# Altium schematic symbol library Schlib1.SchLib: 43 symbols (part 2 of 2)
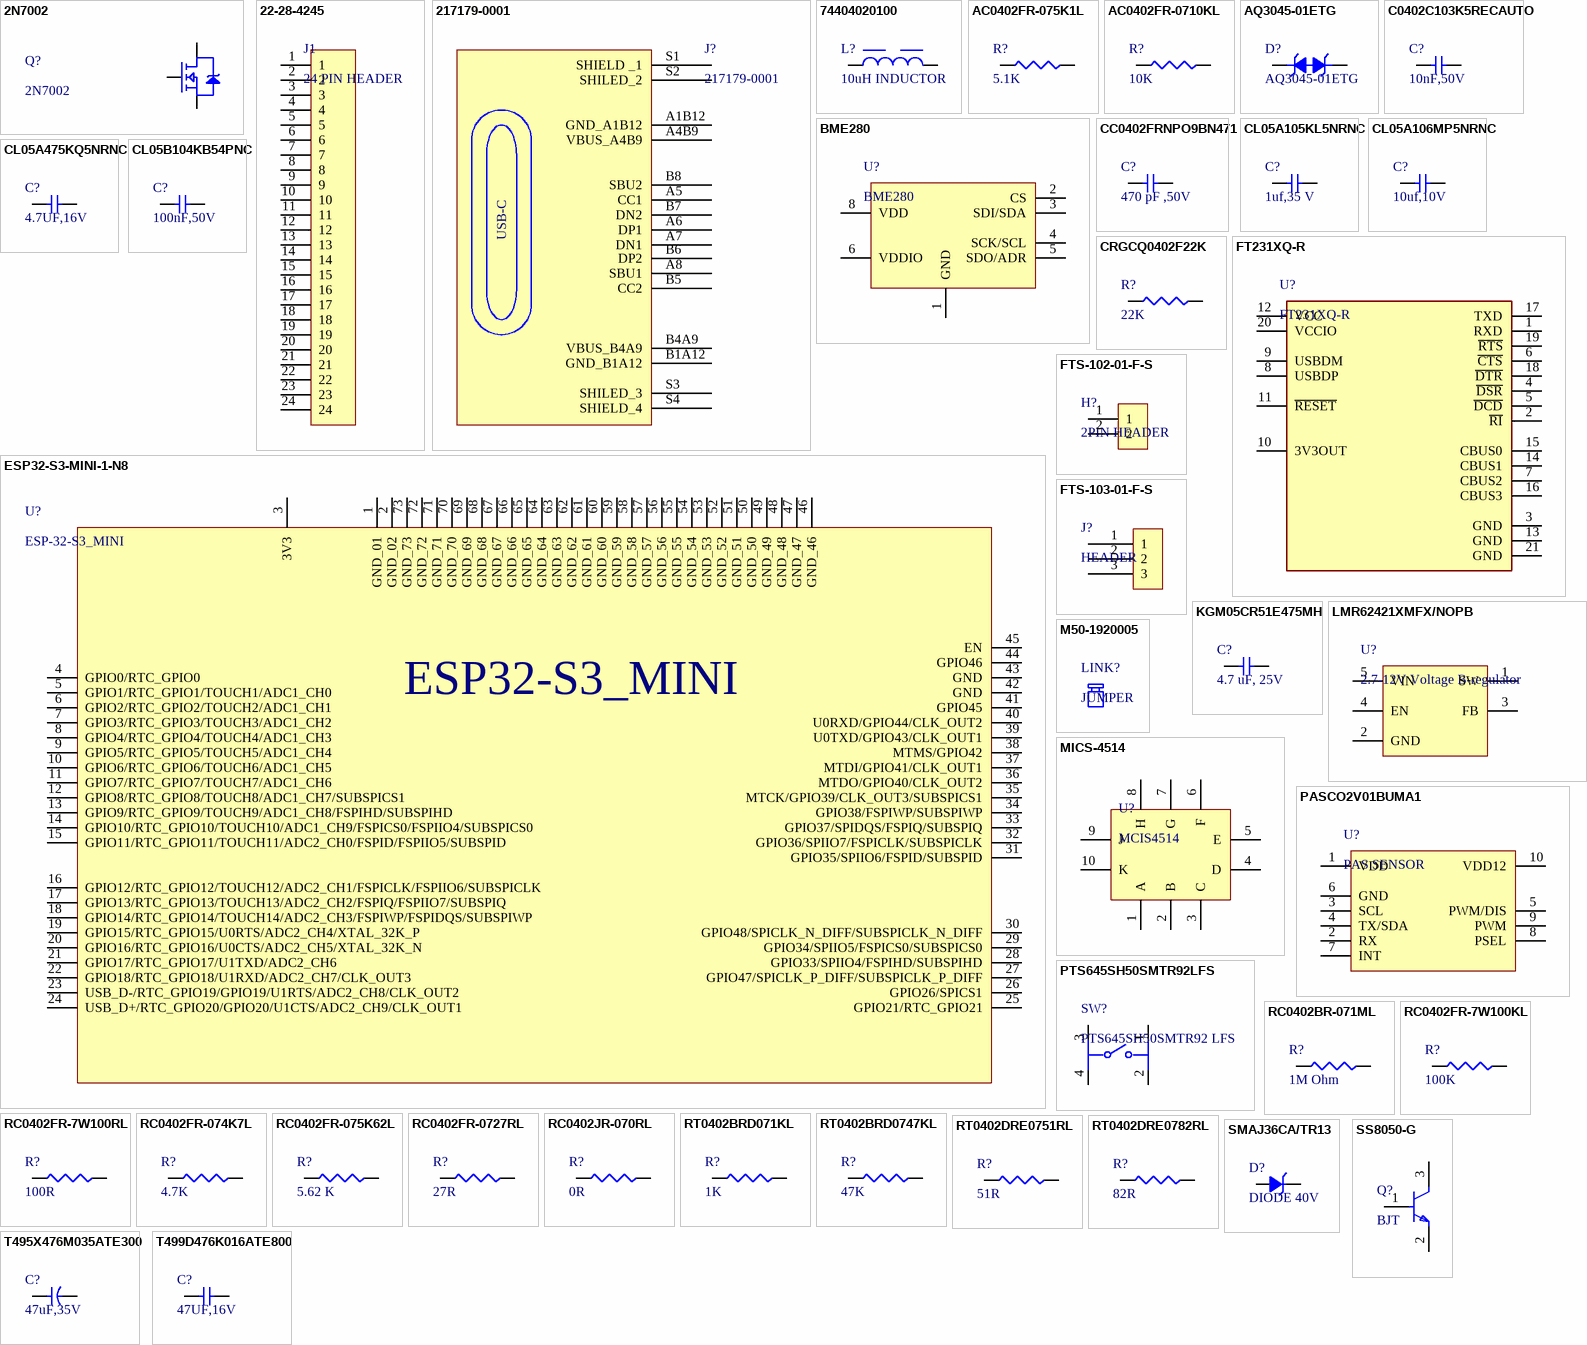
[diagram p2: symbols 2N7002 to T499D476K016ATE800]

## RT0402BRD071KL
designator R?, comment 1K
RES SMD 1K OHM 0.1% 1/16W 0402; Manufacturer: Yageo; Manufacturer Part Number: RT0402BRD071KL; Value: 1kR; Power Rating: 62.5mW; Voltage Rating: 50V; Max Power Dissipation: 63mW; Temperature Coefficient: 25ppm/°C; Supplier: Future Electronics; Supplier Part Number: 4395265; RoHS: Yes; Category: Chip SMD Resistors; Stock: 90000; Pricing: 10000=0.0199, 20000=0.0196, 30000=0.0194, 40000=0.0193, 50000=0.0189 (USD); Case/Package: 0402; Case Code (Imperial): 0402; Case Code (Metric): 1005; Weight: 2.3E-05oz; Min Operating Temperature: -55°C; Max Operating Temperature: 155°C; Packaging: Tape and Reel; Tolerance: 0.1%; Package Quantity: 10000; Number of Terminations: 2; Termination: SMD/SMT; Voltage Rating (DC): 50V; Features: Moisture Resistant; Series: RT; Length: 0.039inch; Width: 0.5mm; Height: 0.014inch; Lead Free: Lead Free; RoHS Compliant: Yes; ComponentLink1URL: https://datasheet.ciiva.com/46635/pyu-rt-1-to-0-05-rohs-l-5-46635179.pdf?src-supplier=Digikey; ComponentLink1Description: https://datasheet.ciiva.com/46635/pyu-rt-1-to-0-05-rohs-l-5-46635179.pdf?src-supplier=Digikey; ComponentLink2URL: https://datasheet.ciiva.com/2582/pyu-rt-1-to-0-05-rohs-l-4-2582219.pdf?src-supplier=Digikey; ComponentLink2Description: https://datasheet.ciiva.com/2582/pyu-rt-1-to-0-05-rohs-l-4-2582219.pdf?src-supplier=Digikey; ComponentLink3URL: https://datasheet.ciiva.com/12837/pyu-rt-1-to-0-05-rohs-l-4-12837237.pdf?src-supplier=Mouser; ComponentLink3Description: https://datasheet.ciiva.com/12837/pyu-rt-1-to-0-05-rohs-l-4-12837237.pdf?src-supplier=Mouser; LCSC PART Number: C852624
footprint RESC1005X37N
pins: 1, 2

## RT0402BRD0747KL
designator R?, comment 47K
RES SMD 47K OHM 0.1% 1/16W 0402; Manufacturer: Yageo; Manufacturer Part Number: RT0402BRD0747KL; Value: 47kR; Power Rating: 62.5mW; Voltage Rating: 50V; Temperature Coefficient: 25ppm/°C; Max Power Dissipation: 63mW; Supplier: Future Electronics; Supplier Part Number: 4102491; RoHS: Yes; Category: Chip SMD Resistors; Stock: 10000; Pricing: 10000=0.0197, 20000=0.0194, 30000=0.0192, 40000=0.0191, 50000=0.0187 (USD); Case/Package: 0402; Case Code (Imperial): 0402; Case Code (Metric): 1005; Weight: 2.3E-05oz; Contact Plating: Tin,Lead; Min Operating Temperature: -55°C; Max Operating Temperature: 155°C; Tolerance: 0.1%; Packaging: Tape and Reel; Termination: SMD/SMT; Number of Terminations: 2; Voltage Rating (DC): 50V; Features: Moisture Resistant; Series: RT; Length: 0.039inch; Width: 0.5mm; Height: 0.014inch; Lead Free: Lead Free; RoHS Compliant: Yes; ComponentLink1URL: https://datasheet.ciiva.com/12798/pyu-rt-1-to-0-05-rohs-l-4-12798280.pdf?src-supplier=Mouser; ComponentLink1Description: https://datasheet.ciiva.com/12798/pyu-rt-1-to-0-05-rohs-l-4-12798280.pdf?src-supplier=Mouser; LCSC PART Number: C728561
footprint RESC1005X37N
pins: 1, 2

## RT0402DRE0751RL
designator R?, comment 51R
RES SMD 51 OHM 0.5% 1/16W 0402; Manufacturer: Yageo; Manufacturer Part Number: RT0402DRE0751RL; Max Power Dissipation: 63mW; Temperature Coefficient: 50ppm/°C; Voltage Rating (DC): 50V; Supplier: Digikey; Supplier Part Number: 311-51UCT-ND; RoHS: Yes; Category: Chip SMD Resistors; Stock: 1712; Pricing: 1=0.1, 10=0.051, 50=0.0494, 100=0.0479, 500=0.03672, 1000=0.03264 (USD); Case/Package: 0402; Case Code (Metric): 1005; Case Code (Imperial): 0402; Min Operating Temperature: -55°C; Max Operating Temperature: 155°C; Value: 51R; Tolerance: 0.5%; Packaging: Cut Tape; Number of Terminations: 2; Series: RT; Lead Free: Lead Free; RoHS Compliant: Yes; ComponentLink1URL: https://www.yageo.com/upload/media/product/productsearch/datasheet/rchip/PYu-RT_1-to-0.01_RoHS_L_11.pdf?src-supplier=Digikey; ComponentLink1Description: https://www.yageo.com/upload/media/product/productsearch/datasheet/rchip/PYu-RT_1-to-0.01_RoHS_L_11.pdf?src-supplier=Digikey; ComponentLink2URL: http://www.yageo.com/documents/recent/PYu-RT_1-to-0.01_RoHS_L_9.pdf?src-supplier=Digikey; ComponentLink2Description: http://www.yageo.com/documents/recent/PYu-RT_1-to-0.01_RoHS_L_9.pdf?src-supplier=Digikey; ComponentLink3URL: https://datasheet.octopart.com/RT0402DRE0751RL-Yageo-datasheet-169971040.pdf?src-supplier=Future+Electronics; ComponentLink3Description: https://datasheet.octopart.com/RT0402DRE0751RL-Yageo-datasheet-169971040.pdf?src-supplier=Future+Electronics; LCSC PART Number: C853981
footprint RESC1005X37N
pins: 1, 2

## RT0402DRE0782RL
designator R?, comment 82R
RES SMD 82 OHM 0.5% 1/16W 0402; Manufacturer: Yageo; Manufacturer Part Number: RT0402DRE0782RL; Max Power Dissipation: 63mW; Temperature Coefficient: 50ppm/°C; Voltage Rating (DC): 50V; Supplier: Digikey; Supplier Part Number: 311-82UTR-ND; RoHS: Yes; Category: Chip SMD Resistors; Pricing: 10000=0.0203 (USD); Case/Package: 0402; Case Code (Metric): 1005; Case Code (Imperial): 0402; Min Operating Temperature: -55°C; Max Operating Temperature: 155°C; Package Quantity: 1; Value: 82R; Tolerance: 0.5%; Packaging: Cut Tape; Number of Terminations: 2; Features: Moisture Resistant; Series: RT; Length: 0.039inch; Width: 0.02inch; Height: 0.014inch; Lead Free: Lead Free; RoHS Compliant: Yes; ComponentLink1URL: https://www.yageo.com/upload/media/product/productsearch/datasheet/rchip/PYu-RT_1-to-0.01_RoHS_L_12.pdf?src-supplier=Digikey; ComponentLink1Description: https://www.yageo.com/upload/media/product/productsearch/datasheet/rchip/PYu-RT_1-to-0.01_RoHS_L_12.pdf?src-supplier=Digikey; ComponentLink2URL: http://www.yageo.com/documents/recent/PYu-RT_1-to-0.01_RoHS_L_8.pdf?src-supplier=Digikey; ComponentLink2Description: http://www.yageo.com/documents/recent/PYu-RT_1-to-0.01_RoHS_L_8.pdf?src-supplier=Digikey; LCSC PART Number: C854049
footprint RESC1005X37N
pins: 1, 2

## SMAJ36CA/TR13
designator D?, comment DIODE 40V
TVS DIODE 36VWM 58.1VC DO214AC; Manufacturer: Yageo; Manufacturer Part Number: SMAJ36CA/TR13; Supplier: Digikey; Supplier Part Number: 13-SMAJ36CA/TR13CT-ND; RoHS: Yes; Stock: 6450; Pricing: 1=0.24, 10=0.153, 100=0.069, 500=0.0655, 1000=0.062 (USD); RoHS Compliant: Yes; LCSC PART Number: C87270
pins: 1, 2

## SS8050-G
designator Q?, comment BJT
TRANS NPN 25V 1.5A SOT-23-3; Manufacturer: Comchip; Manufacturer Part Number: SS8050-G; Max Power Dissipation: 300mW; Transition Frequency: 100MHz; Collector-emitter Voltage-Max: 400mV; Collector Base Voltage (VCBO): 40V; Collector Emitter Saturation Voltage: 500mV; Emitter Base Voltage (VEBO): 5V; hFE Min: 200; Number of Elements: 1; Supplier: Digikey; Supplier Part Number: 641-1790-1-ND; RoHS: Yes; Category: Transistors; Stock: 149582; Pricing: 1=0.24, 10=0.148, 100=0.0921, 500=0.06754, 1000=0.05958, 3000=0.04941, 6000=0.04428, 9000=0.04166, 15000=0.03872, 21000=0.03697, 30000=0.03527, 75000=0.03155, 150000=0.02924, 300000=0.0275 (USD); Mounting Technology: Surface Mount; Case/Package: TO-236-3; Max Operating Temperature: 150°C; Packaging: Cut Tape; Max Collector Current: 1.5A; Collector Emitter Breakdown Voltage: 25V; Max Breakdown Voltage: 25V; Series: -; Power Dissipation: 300mW; Height: 1.15mm; RoHS Compliant: Yes; ComponentLink1URL: http://www.comchiptech.com/admin/files/product/SS8050-G RevA181526.pdf?src-supplier=Digikey; ComponentLink1Description: http://www.comchiptech.com/admin/files/product/SS8050-G RevA181526.pdf?src-supplier=Digikey; LCSC PART Number: C164886
footprint FP-SS8050-G-IPC_B
pins: 1 B, 2 E, 3 C

## T495X476M035ATE300
designator C?, comment 47uF,35V
CAP TANT 47UF 20% 35V 2917; Manufacturer: KEMET; Manufacturer Part Number: T495X476M035ATE300; Dielectric Material: 5684ConductorMaterial; ESR (Equivalent Series Resistance): 300mR; Dissipation Factor: 8%; Supplier: Arrow Electronics; Supplier Part Number: T495X476M035ATE300; RoHS: Yes; Category: Tantalum Capacitors; Stock: 1000; Pricing: 500=1.0041, 1000=0.9091, 2000=0.8325, 5000=0.8058, 10000=0.7684 (USD); Mounting Technology: Surface Mount; Case/Package: 2917; Pins: 2; Case Code (Metric): 7343; Case Code (Imperial): 2917; Weight: 0.023634oz; Min Operating Temperature: -55°C; Max Operating Temperature: 125°C; Packaging: Tape and Reel; Value: 47uF; Voltage Rating: 35V; Tolerance: 20%; Voltage Rating (DC): 35V; Termination: SMD/SMT; Features: General Purpose; Series: T495; Construction: Flat; Length: 7.3mm; Width: 4.3mm; Height: 4.3mm; Depth: 4.3mm; Radiation Hardening: No; Reach SVHC Compliant: No; RoHS Compliant: Yes; ComponentLink1URL: https://datasheet.ciiva.com/5933/kem-t2009-t495-5933557.pdf?src-supplier=Farnell; ComponentLink1Description: https://datasheet.ciiva.com/5933/kem-t2009-t495-5933557.pdf?src-supplier=Farnell; ComponentLink2URL: https://datasheet.ciiva.com/46437/1761160-46437884.pdf?src-supplier=Element14; ComponentLink2Description: https://datasheet.ciiva.com/46437/1761160-46437884.pdf?src-supplier=Element14; ComponentLink3URL: https://datasheet.ciiva.com/7759/kem-t2009-t495-7759181.pdf?src-supplier=Element14; ComponentLink3Description: https://datasheet.ciiva.com/7759/kem-t2009-t495-7759181.pdf?src-supplier=Element14; LCSC PART Number: C4984204
pins: 1, 2  2 

## T499D476K016ATE800
designator C?, comment 47UF,16V
CAP TANT 47UF 10% 16V 2917; Manufacturer: KEMET; Manufacturer Part Number: T499D476K016ATE800; Dielectric Material: Tantalum; ESR (Equivalent Series Resistance): 800mR; Polarity: Polar; Dissipation Factor: 6%; Supplier: Mouser; Supplier Part Number: 80-T499D476K16TE800; RoHS: Yes; Category: Tantalum Capacitors; Stock: 4898; Pricing: 1=2.24, 10=1.43, 50=1.31, 100=1.31, 1000=1.12, 10000=0.758 (USD); Mounting Technology: Surface Mount; Case/Package: 2917; Pins: 2; Case Code (Metric): 7343; Case Code (Imperial): 2917; Min Operating Temperature: -55°C; Max Operating Temperature: 175°C; Package Quantity: 1; Value: 47uF; Voltage Rating: 16V; Tolerance: 10%; Packaging: Tape and Reel; Voltage Rating (DC): 16V; Termination: SMD/SMT; Features: General Purpose; Series: T499; Construction: Flat; Length: 7.3mm; Width: 0.169inch; Height: 3.1mm; Height - Seated (Max): 0.11inch; Depth: 4.3mm; Ratings: AEC-Q200; Radiation Hardening: No; Reach SVHC Compliant: No; Lead Free: Lead Free; RoHS Compliant: Yes; ComponentLink1URL: https://datasheet.ciiva.com/261/kem-t2054-t499-auto-261119.pdf?src-supplier=Digikey; ComponentLink1Description: https://datasheet.ciiva.com/261/kem-t2054-t499-auto-261119.pdf?src-supplier=Digikey; ComponentLink2URL: https://datasheet.ciiva.com/261/kem-t2054-t499-auto-261120.pdf?src-supplier=Digikey; ComponentLink2Description: https://datasheet.ciiva.com/261/kem-t2054-t499-auto-261120.pdf?src-supplier=Digikey; ComponentLink3URL: https://datasheet.ciiva.com/261/kem-t2054-t499-auto-261121.pdf?src-supplier=Digikey; ComponentLink3Description: https://datasheet.ciiva.com/261/kem-t2054-t499-auto-261121.pdf?src-supplier=Digikey; LCSC PART Number: C122336
footprint CAPC1005X55N
pins: 1, 2  2 

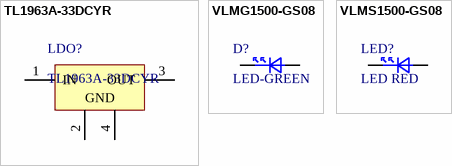
[diagram p1: symbols TL1963A-33DCYR to VLMS1500-GS08]

## TL1963A-33DCYR
designator LDO?
IC REG LIN 3.3V 1.5A SOT-223-4; Manufacturer: Texas Instruments; Number of Outputs: 1; Dropout Voltage: 340mV; Max Supply Voltage: 20V; Min Input Voltage: 2.1V; Input Bias Current: 1mA; Polarity: Positive; Accuracy: 3%; Output Type: Fixed; Supplier: Mouser; Supplier Part Number: 595-TL1963A-33DCYR; Manufacturer Part Number: TL1963A-33DCYR; RoHS: Yes; Category: Voltage Regulators - Linear; Stock: 9346; Pricing: 1=2.77, 10=2.07, 50=1.9, 100=1.7, 1000=1.51, 10000=1.39 (USD); Case/Package: SOT-223-4; Pins: 4; Weight: 0.003951oz; Min Operating Temperature: -40°C; Max Operating Temperature: 125°C; Packaging: Cut Tape; Output Voltage: 3.3V; Output Current: 1.5A; Package Quantity: 2500; Max Output current: 1.5A; Min Output Voltage: 3.3V; Quiescent Current: 1mA; Max Output Voltage: 3.3V; Operating Supply Current: 1mA; Series: TL1963A-33; Length: 6.5mm; Width: 3.5mm; Height: 1.6mm; Thickness: 1.6mm; Lead Free: Lead Free; RoHS Compliant: Yes; ComponentLink1URL: https://datasheet.ciiva.com/2046/-2046068.pdf?src-supplier=Digikey; ComponentLink1Description: https://datasheet.ciiva.com/2046/-2046068.pdf?src-supplier=Digikey; LCSC PART Number: C181262
footprint DCY0004A_N (SOT223, 4-Leads, Body 6.7x3.7mm, Pitch 2.3mm, IPC Medium Density)
pins: 1 IN (power) "Input. Power is supplied to the device through the IN pin. A bypass capacitor is required on this pin if the device is more than six inches away from the main input filter capacitor. In general, the output impedance of a (See Datasheet)", 2 GND (power) "Ground", 3 OUT (power) "Output. The output supplies power to the load. A minimum output capacitor (ceramic) of 10 uF is required to prevent oscillations. Larger output capacitors are required for applications with large transient loads to limit (See Datasheet)", 4 GND (power) "Ground"

## VLMG1500-GS08
designator D?, comment LED-GREEN
LED YLW-GRN 0402 SMD; Manufacturer: Vishay; Manufacturer Part Number: VLMG1500-GS08; Color: Green,Yellow; Lens Color: Clear; Viewing Angle: 130°; Illumination Color: Green; Forward Current: 30mA; Forward Voltage: 2V; Luminous Intensity: 35mcd; Dominant Wavelength: 571nm; Test Current: 20mA; Number of Elements: 1; Power Dissipation: 75mW; Lens Style: Rectangular; Reverse Voltage: 5V; Supplier: Mouser; Supplier Part Number: 78-VLMG1500-GS08; RoHS: Yes; Category: LEDs; Stock: 31007; Pricing: 1=0.33, 10=0.189, 50=0.189, 100=0.089, 1000=0.08, 10000=0.055 (USD); Mounting Technology: Surface Mount; Case/Package: 0402; Pins: 2; Case Code (Metric): 1005; Case Code (Imperial): 0402; Min Operating Temperature: -30°C; Max Operating Temperature: 85°C; Package Quantity: 1; Packaging: Tape and Reel; Wavelength: 571nm; Number of LEDs: 1; Power Rating: 75mW; Series: CHipLED; Length: 1mm; Width: 0.5mm; Height: 0.35mm; Depth: 0.5mm; Radiation Hardening: No; Lead Free: Lead Free; RoHS Compliant: Yes; Reach SVHC Compliant: Unknown; ComponentLink1URL: https://datasheet.ciiva.com/13945/vlmo1500-13945360.pdf?src-supplier=Digikey; ComponentLink1Description: https://datasheet.ciiva.com/13945/vlmo1500-13945360.pdf?src-supplier=Digikey; ComponentLink2URL: https://datasheet.ciiva.com/12071/vlmo1500-244705-12071911.pdf?src-supplier=Mouser; ComponentLink2Description: https://datasheet.ciiva.com/12071/vlmo1500-244705-12071911.pdf?src-supplier=Mouser; ComponentLink3URL: https://datasheet.ciiva.com/13945/vlmo1500-13945358.pdf?src-supplier=Digikey; ComponentLink3Description: https://datasheet.ciiva.com/13945/vlmo1500-13945358.pdf?src-supplier=Digikey; ComponentLink4URL: https://datasheet.ciiva.com/13945/vlmo1500-13945359.pdf?src-supplier=Digikey; ComponentLink4Description: https://datasheet.ciiva.com/13945/vlmo1500-13945359.pdf?src-supplier=Digikey; ComponentLink5URL: https://datasheet.ciiva.com/30005/vlmo1500-30005134.pdf?src-supplier=Avnet; ComponentLink5Description: https://datasheet.ciiva.com/30005/vlmo1500-30005134.pdf?src-supplier=Avnet; LCSC PART Number: C511404
footprint LED0402_G
pins: 1, 2

## VLMS1500-GS08
designator LED?, comment LED RED
LED RED 0402 SMD; Manufacturer: Vishay; Manufacturer Part Number: VLMS1500-GS08; Viewing Angle: 130°; Forward Current: 30mA; Forward Voltage: 2V; Luminous Intensity: 54mcd; Dominant Wavelength: 631nm; Test Current: 20mA; Lens Style: Flat,Rectangular,Square; Number of LEDs: 1; Power Rating: 75mW; Lens Size: 0.5mm; Supplier: Mouser; Supplier Part Number: 78-VLMS1500-GS08; RoHS: Yes; Category: LEDs; Stock: 5861; Pricing: 1=0.33, 10=0.189, 50=0.189, 100=0.089, 1000=0.076, 10000=0.056 (USD); Mounting Technology: Surface Mount; Case/Package: 0402; Pins: 2; Color: Red; Case Code (Metric): 1005; Case Code (Imperial): 0402; Min Operating Temperature: -30°C; Max Operating Temperature: 85°C; Package Quantity: 9000; Packaging: Tape and Reel; Illumination Color: Red; Wavelength: 631nm; Series: CHipLED; Length: 1mm; Width: 0.5mm; Height: 0.55mm; Radiation Hardening: No; Lead Free: Lead Free; RoHS Compliant: Yes; Reach SVHC Compliant: Unknown; ComponentLink1URL: https://datasheet.ciiva.com/13945/vlmo1500-13945367.pdf?src-supplier=Digikey; ComponentLink1Description: https://datasheet.ciiva.com/13945/vlmo1500-13945367.pdf?src-supplier=Digikey; ComponentLink2URL: https://datasheet.ciiva.com/13945/vlmo1500-13945368.pdf?src-supplier=Digikey; ComponentLink2Description: https://datasheet.ciiva.com/13945/vlmo1500-13945368.pdf?src-supplier=Digikey; ComponentLink3URL: https://datasheet.ciiva.com/13945/vlmo1500-13945369.pdf?src-supplier=Digikey; ComponentLink3Description: https://datasheet.ciiva.com/13945/vlmo1500-13945369.pdf?src-supplier=Digikey; LCSC PART Number: C511370
footprint LED0402_R
pins: 1, 2